# Altium schematic symbol library Control_Board_Model.SCHLIB: 226 symbols (part 5 of 7)
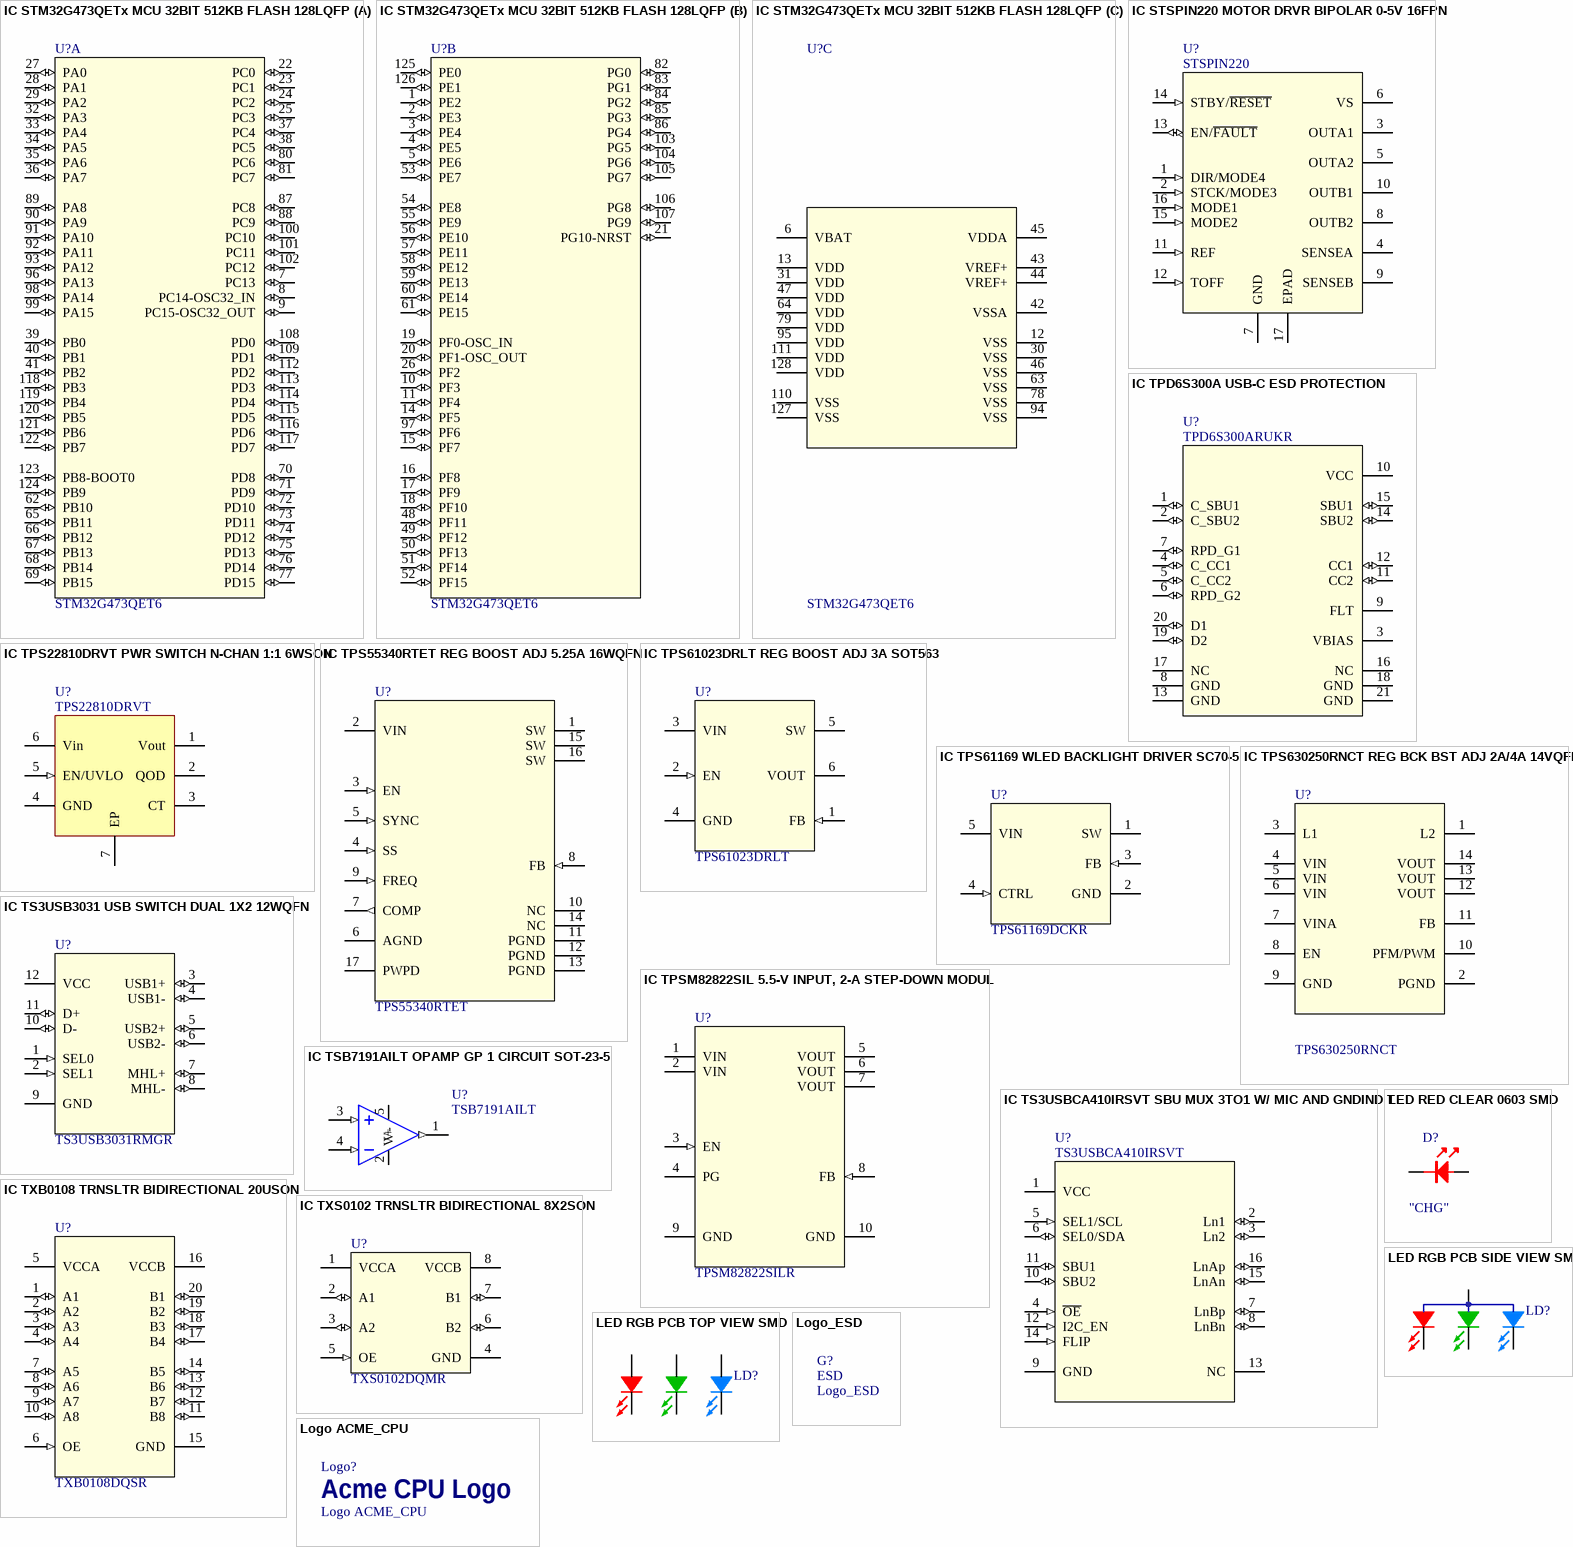
[diagram p11: symbols IC STM32G473QETx MCU 32BIT 512KB FLASH 128LQFP to Logo_ESD]

## IC TXB0108 TRNSLTR BIDIRECTIONAL 20USON
designator U?, comment TXB0108DQSR
Voltage Level Translator Bidirectional 1 Circuit 8 Channel 100Mbps 20-USON (4x2); Manufacturer: Texas Instruments; Propagation Delay: 4ns; Min Supply Voltage: 1.2V; Max Supply Voltage: 5.5V; Number of Channels: 8; High Level Output Current: -20uA; Low Level Output Current: 20uA; Turn-On Delay Time: 35.6ns; Quiescent Current: 3.5uA; Supplier 1: Digi-Key; Manufacturer Part Number: TXB0108DQSR; Stock 1: 18752; Pricing 1: 1=1.29, 10=1.151, 25=1.092, 100=0.897, 250=0.8385, 500=0.741, 1000=0.585 (USD); Mount: Surface Mount; Number of Pins: 20; Min Operating Temperature: -40°C; Max Operating Temperature: 85°C; Data Rate: 100Mbps; Packaging: Tape and Reel; Package Quantity: 1; Logic Function: Translator; Number of Bits: 8; Number of Inputs: 8; Radiation Hardening: No; Lead Free: Lead Free; REACH SVHC: No SVHC; ComponentLink1URL: http://www.ti.com/general/docs/lit/getliterature.tsp?genericPartNumber=TXB0108&amp;&amp;fileType=pdf&src-supplier=Element14; ComponentLink1Description: http://www.ti.com/general/docs/lit/getliterature.tsp?genericPartNumber=TXB0108&amp;&amp;fileType=pdf&src-supplier=Element14; ComponentLink2URL: http://www.ti.com/general/docs/suppproductinfo.tsp?distId=10&gotoUrl=http%3A%2F%2Fwww.ti.com%2Flit%2Fgpn%2Ftxb0108&src-supplier=Digi-Key; ComponentLink2Description: http://www.ti.com/general/docs/suppproductinfo.tsp?distId=10&gotoUrl=http%3A%2F%2Fwww.ti.com%2Flit%2Fgpn%2Ftxb0108&src-supplier=Digi-Key; ComponentLink3URL: http://www.ti.com/lit/ds/symlink/txb0108.pdf?src-supplier=Avnet+Europe; ComponentLink3Description: http://www.ti.com/lit/ds/symlink/txb0108.pdf?src-supplier=Avnet+Europe; ComponentLink4URL: http://www.ti.com/general/docs/lit/getliterature.tsp?genericPartNumber=TXB0108&&fileType=pdf&src-supplier=Avnet; ComponentLink4Description: http://www.ti.com/general/docs/lit/getliterature.tsp?genericPartNumber=TXB0108&&fileType=pdf&src-supplier=Avnet; Supplier Part Number 1: 296-27217-1-ND
footprint DQS20_TEX
pins: 1 A1 (io), 2 A2 (io), 3 A3 (io), 4 A4 (io), 5 VCCA (power), 6 OE (in), 7 A5 (io), 8 A6 (io), 9 A7 (io), 10 A8 (io), 11 B8 (io), 12 B7 (io), 13 B6 (io), 14 B5 (io), 15 GND (power), 16 VCCB (power), 17 B4 (io), 18 B3 (io), 19 B2 (io), 20 B1 (io)

## IC TXS0102 TRNSLTR BIDIRECTIONAL 8X2SON
designator U?, comment TXS0102DQMR
2-Bit Bidirectional Voltage-Level Translator for Open-Drain Application; Manufacturer: Texas Instruments; Max Supply Voltage: 5.5V; Min Supply Voltage: 1.65V; Propagation Delay: 260ns; Data Rate: 24Mbps; Number of Channels: 2; Turn-On Delay Time: 4.6ns; Low Level Output Current: 1mA; High Level Output Current: -20uA; Quiescent Current: 14.4uA; Supplier 1: Digi-Key; Manufacturer Part Number: TXS0102DQMR; Stock 1: 53273; Pricing 1: 1=0.69, 10=0.611, 25=0.5736, 100=0.4681, 250=0.4348, 500=0.37, 1000=0.296 (USD); Mount: Surface Mount; Number of Pins: 8; Contact Plating: Gold; Min Operating Temperature: -40°C; Max Operating Temperature: 85°C; Packaging: Tape and Reel; Package Quantity: 1; Logic Function: Translator; Number of Bits: 2; Number of Inputs: 2; Output Type: Voltage; Length: 1.85mm; Height: 0.35mm; Width: 1.25mm; Radiation Hardening: No; REACH SVHC: No SVHC; Lead Free: Lead Free; ComponentLink1URL: https://www.verical.com/server-webapp/html/getDatasheet?partID=544149&src-supplier=Verical; ComponentLink1Description: https://www.verical.com/server-webapp/html/getDatasheet?partID=544149&src-supplier=Verical; ComponentLink2URL: http://www.ti.com/general/docs/suppproductinfo.tsp?distId=10&gotoUrl=http%3A%2F%2Fwww.ti.com%2Flit%2Fgpn%2Ftxs0102&src-supplier=Digi-Key; ComponentLink2Description: http://www.ti.com/general/docs/suppproductinfo.tsp?distId=10&gotoUrl=http%3A%2F%2Fwww.ti.com%2Flit%2Fgpn%2Ftxs0102&src-supplier=Digi-Key; Supplier Part Number 1: 296-28435-1-ND
footprint DQM8
pins: 1 VCCA (power), 2 A1 (io), 3 A2 (io), 4 GND (power), 5 OE (in), 6 B2 (io), 7 B1 (io), 8 VCCB (power)

## LED RED CLEAR 0603 SMD
designator D?, comment "CHG"
Red 631nm LED Indication - Discrete 2V 0603 (1608 Metric); Manufacturer: Vishay Lite-On; Manufacturer Part Number: LTST-C191KRKT; Lens Style: Clear,Diffused,Colorless,Rectangular; Lens Transparency: Clear; Luminous Intensity: 54mcd; Test Current: 20mA; Viewing Angle: 130°; Lens Color: Colorless; Forward Current: 30mA; Number of Elements: 1; Power Dissipation: 75mW; Wavelength: 639nm; Reverse Voltage: 5V; Supplier 1: Digi-Key; Stock 1: 230321; Pricing 1: 1=0.26, 10=0.192, 100=0.0909, 500=0.0606, 1000=0.0475, 2500=0.0465 (USD); Mount: Surface Mount; Case/Package: 0603; Color: Red; Case Code (Imperial): 0603; Case Code (Metric): 1608; Packaging: Tape and Reel; Forward Voltage: 2V; Dominant Wavelength: 631nm; Length: 1.6mm; Height: 0.55mm; Width: 0.8mm; ComponentLink1URL: http://optoelectronics.liteon.com/upload/download/DS22-2000-223/LTST-C191KRKT.PDF?src-supplier=Digi-Key; ComponentLink1Description: http://optoelectronics.liteon.com/upload/download/DS22-2000-223/LTST-C191KRKT.PDF?src-supplier=Digi-Key; ComponentLink2URL: http://www1.futureelectronics.com/doc/LITE-ON/LTST-C191KRKT.pdf?src-supplier=Future+Electronics; ComponentLink2Description: http://www1.futureelectronics.com/doc/LITE-ON/LTST-C191KRKT.pdf?src-supplier=Future+Electronics; ComponentLink3URL: https://www.verical.com/server-webapp/html/getDatasheet?partID=141922&src-supplier=Verical; ComponentLink3Description: https://www.verical.com/server-webapp/html/getDatasheet?partID=141922&src-supplier=Verical; ComponentLink4URL: http://www.mouser.com/ds/2/239/LTST-C191KRKT-1140668.pdf?src-supplier=Mouser; ComponentLink4Description: http://www.mouser.com/ds/2/239/LTST-C191KRKT-1140668.pdf?src-supplier=Mouser; Supplier Part Number 1: 160-1447-1-ND; Number of Pins: 2; Min Operating Temperature: -55°C; Max Operating Temperature: 85°C; Package Quantity: 1; Illumination Color: Red; Number of LEDs: 1; Depth: 0.8mm; Radiation Hardening: No; Lead Free: Lead Free; Power Rating: 75mW; Voltage: 2V
footprint LED_0603 (LED Indication - Discrete 0603)
pins: 1 K, 2 A

## LED RGB PCB SIDE VIEW SMD
designator LD?, comment EASV2713RGBA1  (value not drawn)
Red, Green, Blue (RGB) 619nm Red, 532nm Green, 473nm Blue LED Indication - Discrete 1.85V Red, 2.9V Green, 2.9V Blue 4-SMD, No Lead; Manufacturer: Everlight Electronics Co Ltd; Color: Blue,Green,Red; Lens Style: Rectangle with Flat Top; Element Configuration: Common Anode; Lens Transparency: Diffused; Forward Voltage: 3.3V; Test Current: 5mA; Viewing Angle: 130°; Supplier 1: Digi-Key; Manufacturer Part Number: EASV2713RGBA1; Stock 1: 7810; Pricing 1: 1=0.51, 50=0.415, 100=0.298, 500=0.272 (USD); Mount: Surface Mount; Packaging: Tape and Reel; Height: 0.5mm; ComponentLink1URL: https://www.digikey.com/en/products/detail/everlight-electronics-co-ltd/EASV2713RGBA1/11200807; ComponentLink1Description: https://www.digikey.com/en/products/detail/everlight-electronics-co-ltd/EASV2713RGBA1/11200807; Supplier Part Number 1: 1080-EASV2713RGBA1TR-ND
footprint LED_EASV2713RGBA1
pins: 1 A, 2 GK, 3 RK, 4 BK

## LED RGB PCB TOP VIEW SMD
designator LD?, comment 19-337C/RSBHGHC-A88/4T  (value not drawn)
Red, Green, Blue (RGB) 625nm Red, 530nm Green, 470nm Blue LED Indication - Discrete 2.05V Red, 2.9V Green, 2.9V Blue 0606 (1616 Metric); Manufacturer: Everlight Electronics Co Ltd; Color: Blue,Green,Red; Lens Style: Rectangle with Flat Top; Element Configuration: Independent; Lens Transparency: Clear; Forward Voltage: 3.3V; Test Current: 20mA; Viewing Angle: 120°; Supplier 1: Digi-Key; Manufacturer Part Number: 19-337C/RSBHGHC-A88/4T; Stock 1: 7810; Pricing 1: 1=0.51, 50=0.415, 100=0.298, 500=0.272 (USD); Mount: Surface Mount; Packaging: Tape and Reel; Height: 0.5mm; ComponentLink1URL: https://www.digikey.com/en/products/detail/everlight-electronics-co-ltd/19-337C-RSBHGHC-A88-4T/10059590?s=N4IgTCBcDaIIwE4C0BmFB2AwgegEoGUAhACQHFjMkBBADhuwBYAVEAXQF8g; ComponentLink1Description: https://www.digikey.com/en/products/detail/everlight-electronics-co-ltd/19-337C-RSBHGHC-A88-4T/10059590?s=N4IgTCBcDaIIwE4C0BmFB2AwgegEoGUAhACQHFjMkBBADhuwBYAVEAXQF8g; Supplier Part Number 1: 1080-1631-2-ND
footprint LED_19-337C/RSBHGHC-A88/4T
pins: 1 GK, 2 GA, 3 RK, 4 RA, 5 BK, 6 BA

## Logo ACME_CPU
designator Logo?  (no BOM)
ClassName: PCB_FEATURE
footprint LOGO_ACME_CPU (Footprint not found)
text: Acme CPU Logo

## Logo_ESD
designator G?  (no BOM)
footprint Logo_ESD (Silk only)
text: ESD

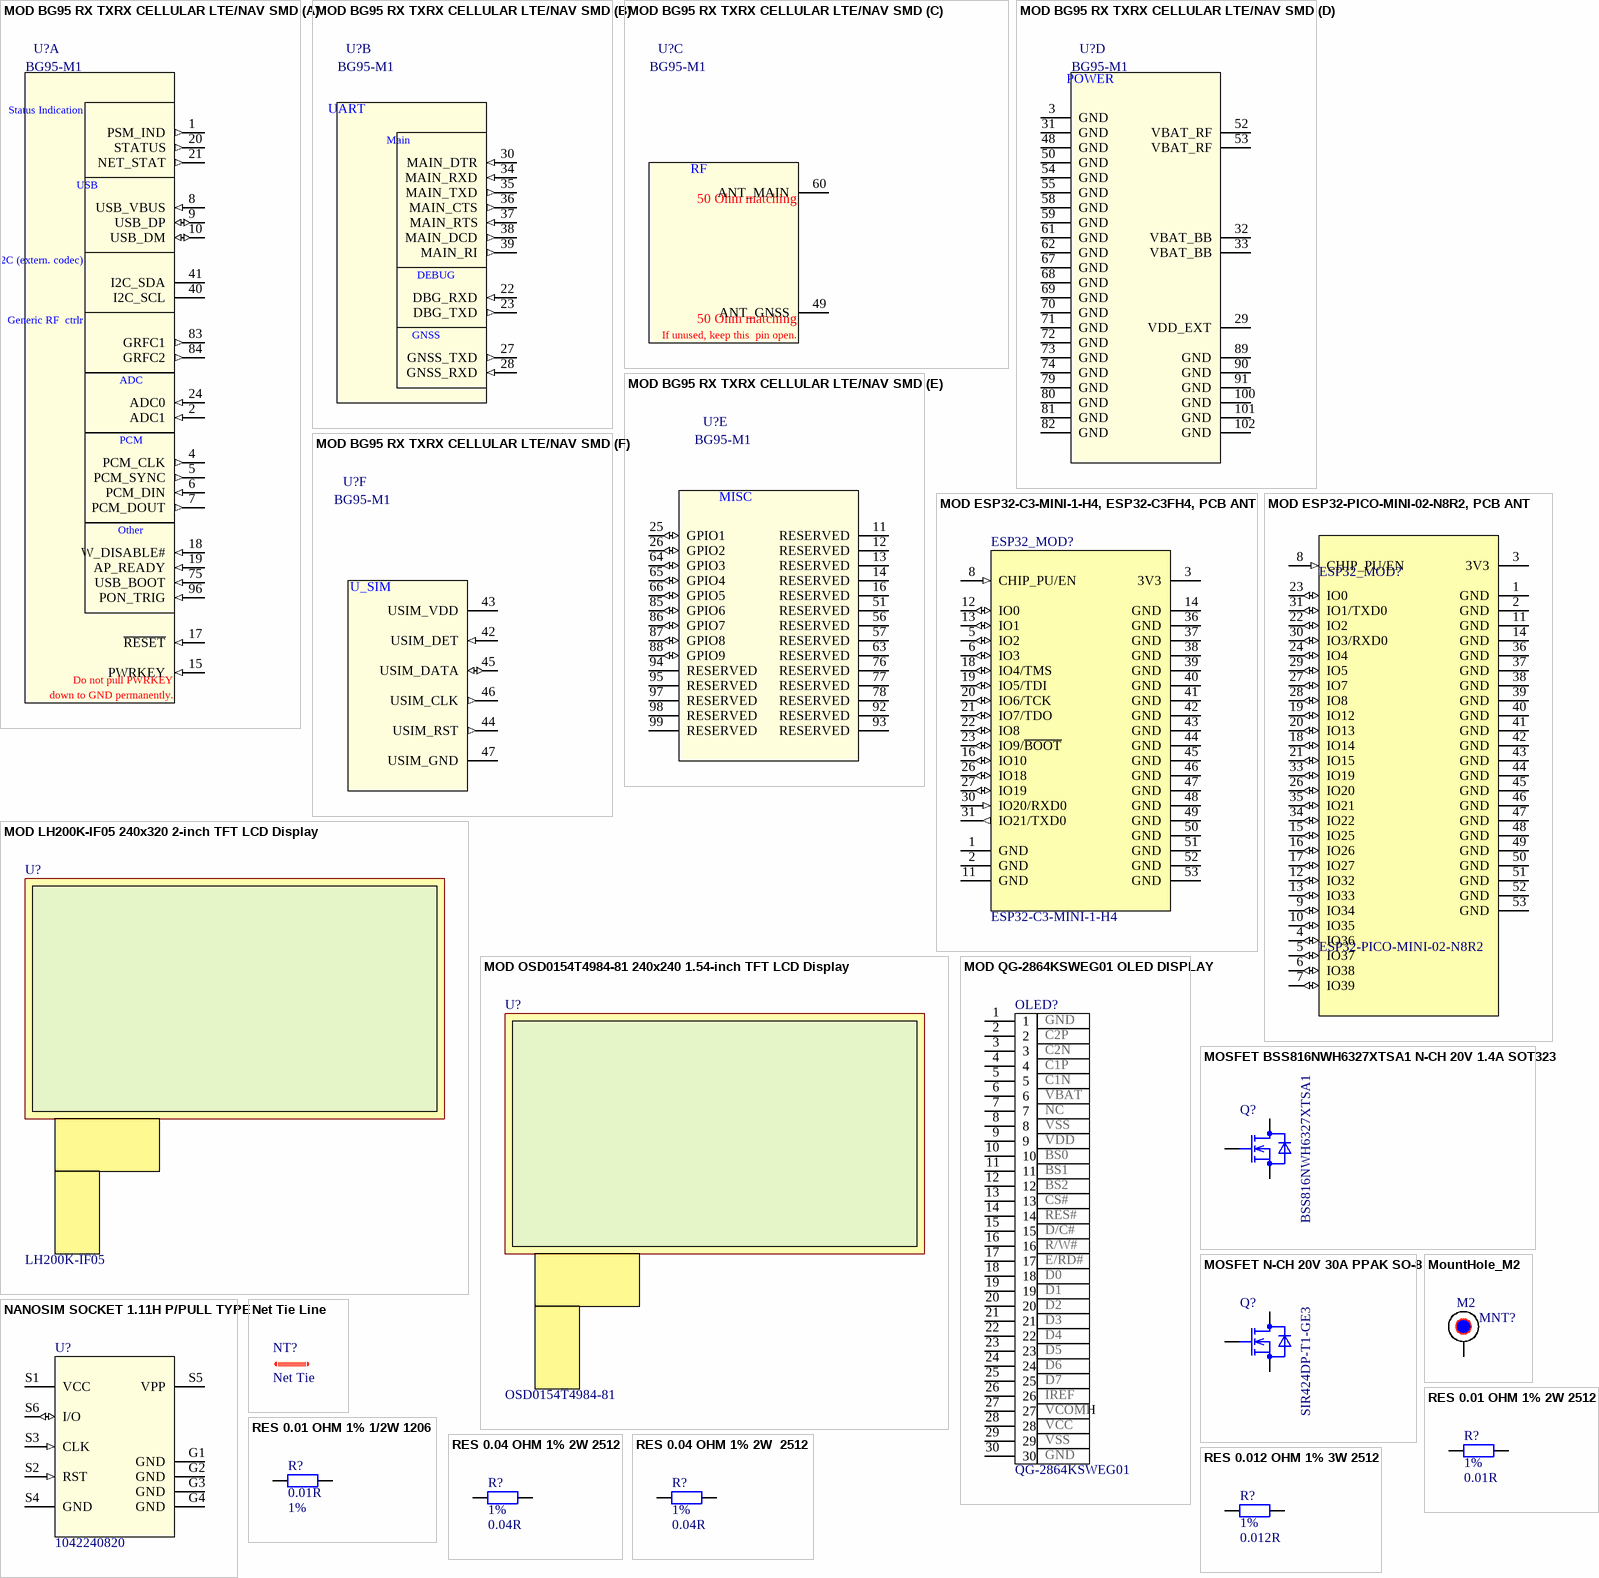
[diagram p5: symbols MOD BG95 RX TXRX CELLULAR LTE/NAV SMD to RES 0.012 OHM 1% 3W 2512]

## MOD BG95 RX TXRX CELLULAR LTE/NAV SMD
designator U?, comment BG95-M1
LTE Cat M1, LTE Cat NB2 and EGPRS Transceiver Module Antenna Not Included Surface Mount; Manufacturer: QUECTEL; Part Description: IC MODULE BG95 102-LGA 19.9x23.6mm H2.2mm RO; Geometry.Height: 2.2mm; Value: BG95; Manufacturer Part Number: BG95-M1; PCB DECAL: BG95; Mount: Surface Mount
footprint BG95
part A pins: 1 PSM_IND (out), 2 ADC1 (in), 4 PCM_CLK (out), 5 PCM_SYNC (out), 6 PCM_DIN (in), 7 PCM_DOUT (out), 8 USB_VBUS (in), 9 USB_DP (io), 10 USB_DM (io), 15 PWRKEY (in), 17 ~{RESET} (in), 18 W_DISABLE# (in), 19 AP_READY (in), 20 STATUS (out), 21 NET_STAT (out), 24 ADC0 (in), 40 I2C_SCL, 41 I2C_SDA, 75 USB_BOOT (in), 83 GRFC1 (out), 84 GRFC2 (out), 96 PON_TRIG (in)
part B pins: 22 DBG_RXD (in), 23 DBG_TXD (out), 27 GNSS_TXD (out), 28 GNSS_RXD (in), 30 MAIN_DTR (in), 34 MAIN_RXD (in), 35 MAIN_TXD (out), 36 MAIN_CTS (out), 37 MAIN_RTS (in), 38 MAIN_DCD (out), 39 MAIN_RI (out)
part C pins: 49 ANT_GNSS, 60 ANT_MAIN
part D pins: 3 GND (power), 29 VDD_EXT (power) "If unused, keep this  pin open", 31 GND (power), 32 VBAT_BB (power), 33 VBAT_BB (power), 48 GND (power), 50 GND (power), 52 VBAT_RF (power), 53 VBAT_RF (power), 54 GND (power), 55 GND (power), 58 GND (power), 59 GND (power), 61 GND (power), 62 GND (power), 67 GND (power), 68 GND (power), 69 GND (power), 70 GND (power), 71 GND (power), 72 GND (power), 73 GND (power), 74 GND (power), 79 GND (power), 80 GND (power), 81 GND (power), 82 GND (power), 89 GND (power), 90 GND (power), 91 GND (power), 100 GND (power), 101 GND (power), 102 GND (power)
part E pins: 11 RESERVED, 12 RESERVED, 13 RESERVED, 14 RESERVED, 16 RESERVED, 25 GPIO1 (io), 26 GPIO2 (io), 51 RESERVED, 56 RESERVED, 57 RESERVED, 63 RESERVED, 64 GPIO3 (io), 65 GPIO4 (io), 66 GPIO5 (io), 76 RESERVED, 77 RESERVED, 78 RESERVED, 85 GPIO6 (io), 86 GPIO7 (io), 87 GPIO8 (io), 88 GPIO9 (io), 92 RESERVED, 93 RESERVED, 94 RESERVED, 95 RESERVED, 97 RESERVED, 98 RESERVED, 99 RESERVED
part F pins: 42 USIM_DET (in), 43 USIM_VDD (power), 44 USIM_RST (out), 45 USIM_DATA (io), 46 USIM_CLK (out), 47 USIM_GND (power)
part A text: Status Indication; USB; I2C (extern. codec); Generic RF  ctrlr; ADC; PCM; Other; Do not pull PWRKEY; down to GND permanently.
part B text: UART; Main; DEBUG; GNSS
part C text: RF; 50 Ohm matching; If unused, keep this  pin open.
part D text: POWER
part E text: MISC
part F text: U_SIM

## MOD ESP32-C3-MINI-1-H4, ESP32-C3FH4, PCB ANT
designator ESP32_MOD?, comment ESP32-C3-MINI-1-H4
Bluetooth, WiFi 802.11b/g/n, Bluetooth v5.0 Transceiver Module 2.412GHz ~ 2.484GHz PCB Trace Surface Mount; Manufacturer: Espressif Systems; Supplier 1: Mouser; Manufacturer Part Number: ESP32-C3-MINI-1-H4; Stock 1: 0; Pricing 1: 1=1.9, 10=1.9, 50=1.9, 100=1.9, 1000=1.9, 10000=1.9 (USD); Supplier Part Number 1: 356-ESP32-C3-MINI1H4
footprint MODULE_ESP32-C3-MINI-1
pins: 1 GND (power), 2 GND (power), 3 3V3 (power), 4 NC hidden, 5 IO2 (io), 6 IO3 (io), 7 NC hidden, 8 CHIP_PU/EN (in), 9 NC hidden, 10 NC hidden, 11 GND (power), 12 IO0 (io), 13 IO1 (io), 14 GND (power), 15 NC hidden, 16 IO10 (io), 17 NC hidden, 18 IO4/TMS (io), 19 IO5/TDI (io), 20 IO6/TCK (io), 21 IO7/TDO (io), 22 IO8 (io), 23 IO9/~{BOOT} (io), 24 NC hidden, 25 NC hidden, 26 IO18 (io), 27 IO19 (io), 28 NC hidden, 29 NC hidden, 30 IO20/RXD0 (in), 31 IO21/TXD0 (out), 32 NC hidden, 33 NC hidden, 34 NC hidden, 35 NC hidden, 36 GND (power), 37 GND (power), 38 GND (power), 39 GND (power), 40 GND (power), 41 GND (power), 42 GND (power), 43 GND (power), 44 GND (power), 45 GND (power), 46 GND (power), 47 GND (power), 48 GND (power), 49 GND (power), 50 GND (power), 51 GND (power), 52 GND (power), 53 GND (power)

## MOD ESP32-PICO-MINI-02-N8R2, PCB ANT
designator ESP32_MOD?, comment ESP32-PICO-MINI-02-N8R2
Bluetooth, WiFi 802.11b/g/n, Bluetooth v4.2 +EDR, Class 1, 2 and 3 Transceiver Module 2.412GHz ~ 2.484GHz PCB Trace Chassis Mount; Manufacturer: Espressif Systems; Supplier 1: Mouser; Manufacturer Part Number: ESP32-PICO-MINI-02-N8R2; Stock 1: 0; Supplier Part Number 1: 1965-ESP32-PICO-MINI-02-N8R2CT-ND
footprint MODULE_ESP32-C3-MINI-1
pins: 1 GND (power), 2 GND (power), 3 3V3 (power), 4 NC hidden, 4 IO36 (io), 5 IO37 (io), 6 IO38 (io), 7 NC hidden, 7 IO39 (io), 8 CHIP_PU/EN (in), 9 NC hidden, 9 IO34 (io), 10 NC hidden, 10 IO35 (io), 11 GND (power), 12 IO32 (io), 13 IO33 (io), 14 GND (power), 15 NC hidden, 15 IO25 (io), 16 IO26 (io), 17 NC hidden, 17 IO27 (io), 18 IO14 (io), 19 IO12 (io), 20 IO13 (io), 21 IO15 (io), 22 IO2 (io), 23 IO0 (io), 24 NC hidden, 24 IO4 (io), 25 NC hidden, 26 IO20 (io), 27 IO7 (io), 28 NC hidden, 28 IO8 (io), 29 NC hidden, 29 IO5 (io), 30 IO3/RXD0 (io), 31 IO1/TXD0 (io), 32 NC hidden, 33 NC hidden, 33 IO19 (io), 34 NC hidden, 34 IO22 (io), 35 NC hidden, 35 IO21 (io), 36 GND (power), 37 GND (power), 38 GND (power), 39 GND (power), 40 GND (power), 41 GND (power), 42 GND (power), 43 GND (power), 44 GND (power), 45 GND (power), 46 GND (power), 47 GND (power), 48 GND (power), 49 GND (power), 50 GND (power), 51 GND (power), 52 GND (power), 53 GND (power)

## MOD LH200K-IF05 240x320 2-inch TFT LCD Display
designator U?, comment LH200K-IF05  (mechanical)
2” TFT LCD Display.; Manufacturer: Shenzhen Limito Technology Inc.; Mount: Not Mounted on PCB; Manufacturer Part Number: LH200K-IF05

## MOD OSD0154T4984-81 240x240 1.54-inch TFT LCD Display
designator U?, comment OSD0154T4984-81  (mechanical)
2” TFT LCD Display.; Manufacturer: OSD DISPLAYS; Mount: Not Mounted on PCB; Manufacturer Part Number: OSD0154T4984-81

## MOD QG-2864KSWEG01 OLED DISPLAY
designator OLED?, comment QG-2864KSWEG01  pin_1: GND  pin_2: C2P  pin_3: C2N  pin_4: C1P  pin_5: C1N  pin_6: VBAT  pin_7: NC  pin_8: VSS  pin_9: VDD  pin_10: BS0  pin_11: BS1  pin_12: BS2  pin_13: CS#  pin_14: RES#  pin_15: D/C#  pin_16: R/W#  pin_17: E/RD#  pin_18: D0  pin_19: D1  pin_20: D2  pin_21: D3  pin_22: D4  pin_23: D5  pin_24: D6  pin_25: D7  pin_26: IREF  pin_27: VCOMH  pin_28: VCC
OLED Display Module FPC #LT1306P22 TOP 30P 0.7MM; Manufacturer: Limito Technology Inc.; Number of Columns: 128; Number of Circuits: 30; Manufacturer Part Number: QG-2864KSWEG01; Mount: FPC Soldered on PCB; Min Operating Temperature: -40°C; Max Operating Temperature: 70°C; Number of Rows: 64; Number of Contacts: 30; Pitch: 0.7mm; pin_29: VSS; pin_30: GND
footprint QG-2864KSWEG01_Flipped (Folding Type OLED Display Module)
footprint QG-2864KSWEG01_FRONT (Folding Type OLED Display Module)
pins: 1, 2, 3, 4, 5, 6, 7, 8, 9, 10, 11, 12, 13, 14, 15, 16, 17, 18, 19, 20, 21, 22, 23, 24, 25, 26, 27, 28, 29, 30

## MOSFET BSS816NWH6327XTSA1 N-CH 20V 1.4A SOT323
designator Q?, comment BSS816NWH6327XTSA1
N-Channel 20V 1.4A (Ta) 500mW (Ta) Surface Mount PG-SOT323-3; Manufacturer: Infineon; Rds On Max: 160mR; Rise Time: 9ns; Input Capacitance: 180pF; Turn-On Delay Time: 5.3ns; Turn-Off Delay Time: 11ns; Fall Time: 2.2ns; Threshold Voltage: 550mV; Gate to Source Voltage (Vgs): 8V; Number of Channels: 1; Supplier 1: Digi-Key; Manufacturer Part Number: BSS816NWH6327XTSA1; Stock 1: 12407; Pricing 1: 1=0.37, 10=0.306, 25=0.2564, 100=0.1254, 250=0.1234, 500=0.1046, 1000=0.0727 (USD); Mount: Surface Mount; Case/Package: SOT-323; Number of Pins: 3; Weight: 0.004395oz; Contact Plating: Tin; Min Operating Temperature: -55°C; Max Operating Temperature: 150°C; Packaging: Tape and Reel; Drain to Source Voltage (Vdss): 20V; Max Dual Supply Voltage: 20V; Continuous Drain Current (ID): 1.4A; Max Power Dissipation: 500mW; Drain to Source Breakdown Voltage: 20V; Drain to Source Resistance: 160mR; Package Quantity: 3000; Halogen Free: Halogen Free; REACH SVHC: No SVHC; Lead Free: Lead Free; ComponentLink1URL: http://www.infineon.com/dgdl/BSS816NW_Rev2.3_.pdf?folderId=db3a3043156fd573011622e10b5c1f67&fileId=db3a304335113a6301351e704a2e1332&src-supplier=Avnet; ComponentLink1Description: http://www.infineon.com/dgdl/BSS816NW_Rev2.3_.pdf?folderId=db3a3043156fd573011622e10b5c1f67&fileId=db3a304335113a6301351e704a2e1332&src-supplier=Avnet; ComponentLink2URL: http://www.farnell.com/datasheets/2117725.pdf?src-supplier=Farnell; ComponentLink2Description: http://www.farnell.com/datasheets/2117725.pdf?src-supplier=Farnell; ComponentLink3URL: https://www.infineon.com/dgdl/Infineon-BSS816NW-DS-v02_03-en.pdf?fileId=db3a304335113a6301351e704a2e1332&src-supplier=Digi-Key; ComponentLink3Description: https://www.infineon.com/dgdl/Infineon-BSS816NW-DS-v02_03-en.pdf?fileId=db3a304335113a6301351e704a2e1332&src-supplier=Digi-Key; ComponentLink4URL: http://components.arrow.com/part/dataview/53682469S9650N2051?src-supplier=Arrow; ComponentLink4Description: http://components.arrow.com/part/dataview/53682469S9650N2051?src-supplier=Arrow; ComponentLink5URL: http://www.farnell.com/datasheets/2117725.pdf?src-supplier=Element14; ComponentLink5Description: http://www.farnell.com/datasheets/2117725.pdf?src-supplier=Element14; ComponentLink6URL: http://www.mouser.com/ds/2/196/Infineon-BSS816NW-DS-v02_03-en-522793.pdf?src-supplier=Mouser; ComponentLink6Description: http://www.mouser.com/ds/2/196/Infineon-BSS816NW-DS-v02_03-en-522793.pdf?src-supplier=Mouser; Supplier Part Number 1: BSS816NWH6327XTSA1CT-ND
footprint SOT-323
pins: 1 G, 2 S, 3 D

## MOSFET N-CH 20V 30A PPAK SO-8
designator Q?, comment SIR424DP-T1-GE3
N-Channel 20 V 30A (Tc) 4.8W (Ta), 41.7W (Tc) Surface Mount PowerPAK® SO-8; Manufacturer: Vishay Siliconix; Drain to Source Voltage (Vdss): 20V; Rds On Max: 5.5mR; Rise Time: 10ns; Input Capacitance: 1250pF; Max Power Dissipation: 4.8mW; Turn-On Delay Time: 18ns; Turn-Off Delay Time: 23ns; Fall Time: 7ns; Gate to Source Voltage (Vgs): 8V; Number of Channels: 1; Supplier 1: Digi-Key; Manufacturer Part Number: SIR424DP-T1-GE3; Stock 1: 12407; Pricing 1: 1=0.37, 10=0.306, 25=0.2564, 100=0.1254, 250=0.1234, 500=0.1046, 1000=0.0727 (USD); Mount: Surface Mount; Case/Package: PowerPAK® SO-8; Number of Pins: 3; Weight: 0.004395oz; Contact Plating: Tin; Min Operating Temperature: -55°C; Max Operating Temperature: 150°C; Packaging: Tape and Reel; Max Dual Supply Voltage: 20V; Continuous Drain Current (ID): 30A; Drain to Source Breakdown Voltage: 20V; Drain to Source Resistance: 5.5mR; Package Quantity: 3000; Halogen Free: Halogen Free; REACH SVHC: No SVHC; Lead Free: Lead Free; ComponentLink1URL: http://www.infineon.com/dgdl/BSS816NW_Rev2.3_.pdf?folderId=db3a3043156fd573011622e10b5c1f67&fileId=db3a304335113a6301351e704a2e1332&src-supplier=Avnet; ComponentLink1Description: http://www.infineon.com/dgdl/BSS816NW_Rev2.3_.pdf?folderId=db3a3043156fd573011622e10b5c1f67&fileId=db3a304335113a6301351e704a2e1332&src-supplier=Avnet; Supplier Part Number 1: SIR424DP-T1-GE3TR-ND
footprint PowerPAK® SO-8
pins: 1 G, 2 S, 3 D

## MountHole_M2
designator MNT?, comment MountHole M2. Nothing to buy or mount  (value not drawn)  (no BOM)
PCB Mount Hole. There is nothing to buy or mount.
footprint MountHole_M2 (Footprint not found)
pins: 1
text: M2

## NANOSIM SOCKET 1.11H P/PULL TYPE
designator U?, comment 1042240820
6 Position Card Connector NANO SIM Surface Mount, Right Angle Gold; Manufacturer: Molex; Number of Positions: 6; Pitch: 2.54mm; Supplier 1: Digi-Key; Manufacturer Part Number: 1042240820; Stock 1: 10989; Pricing 1: 1=1.31, 10=1.152, 25=1.0844, 50=1.039, 100=0.9939, 250=0.9036, 500=0.8132, 1000=0.7228 (USD); Mount: Surface Mount; Contact Plating: Gold; Number of Rows: 2; Orientation: Right Angle; Connector Type: Connector; Packaging: Tape and Reel; ComponentLink1URL: https://www.molex.com/pdm_docs/sd/1042240820_sd.pdf?src-supplier=Digi-Key; ComponentLink1Description: https://www.molex.com/pdm_docs/sd/1042240820_sd.pdf?src-supplier=Digi-Key; ComponentLink2URL: http://www.molex.com/pdm_docs/sd/1042240820_sd.pdf?src-supplier=Avnet; ComponentLink2Description: http://www.molex.com/pdm_docs/sd/1042240820_sd.pdf?src-supplier=Avnet; Supplier Part Number 1: WM23749CT-ND
footprint 1042240820_MOL
pins: G1 GND (power), G2 GND (power), G3 GND (power), G4 GND (power), S1 VCC (power), S2 RST (in), S3 CLK (in), S4 GND (power), S5 VPP (power), S6 I/O (io)

## Net Tie Line
designator NT?, comment Net Tie  (net tie, no BOM)
ClassName: Net Tie
footprint Net Tie 1x3mm
footprint Net Tie 6x30mil
footprint Net Tie 8x30mil
pins: 1, 2

## RES 0.01 OHM 1% 1/2W 1206
designator R?  Resistance: 0.01R  Tolerance: 1%  (hidden comment: RES 0.01 OHM 1% 1/2W 1206)
10 mOhms ±1% 0.5W, 1/2W Chip Resistor 1206 (3216 Metric) Automotive AEC-Q200, Current Sense, Moisture Resistant Metal Foil; Manufacturer: Yageo; Manufacturer Part Number: PE1206FRF7W0R01L; Voltage Rating: 200V; Power Rating: 250mW; Temperature Coefficient: 100ppm/°C; Supplier 1: Digi-Key; Stock 1: 98107; Pricing 1: 1=0.1, 10=0.061, 100=0.0249, 1000=0.0112, 2500=0.0097 (USD); Case/Package: 1206; Number of Pins: 2; Weight: 0.000571oz; Case Code (Imperial): 1206; Case Code (Metric): 3216; Contact Plating: Tin,Matte; Min Operating Temperature: -55°C; Max Operating Temperature: 155°C; Packaging: Tape and Reel; Voltage Rating (DC): 200V; Composition: Thick Film; Termination: SMD/SMT; Military Standard: Not; Length: 3.2mm; Height: 0.55mm; Width: 1.6mm; Depth: 1.6mm; Radiation Hardening: No; Lead Free: Lead Free; REACH SVHC: Unknown; ComponentLink1URL: https://www.digikey.com/en/products/detail/yageo/PE1206FRF7W0R01L/5914361; ComponentLink1Description: https://www.digikey.com/en/products/detail/yageo/PE1206FRF7W0R01L/5914361; Supplier Part Number 1: YAG6013TR-ND; Mount: Surface Mount
footprint R1206 (Footprint not found)
pins: 1, 2
1 alternate drawing of the same symbol

## RES 0.01 OHM 1% 2W 2512
designator R?  Tolerance: 1%  Resistance: 0.01R  (hidden comment: RES 0.01 OHM 1% 2W 2512)
10 mOhms ±1% 2W Chip Resistor 2512 (6432 Metric) Automotive AEC-Q200, Current Sense, Moisture Resistant Metal Element; Manufacturer: YAGEO; Manufacturer Part Number: PA2512FKF7W0R01E; Voltage Rating: 200V; Temperature Coefficient: 50ppm/°C; Supplier 1: Digi-Key; Stock 1: 5005874; Pricing 1: 1=0.1, 10=0.014, 100=0.0058, 1000=0.0026, 2500=0.0023, 5000=0.0019 (USD); Case/Package: 2512; Number of Pins: 2; Weight: 2.3E-05oz; Case Code (Imperial): 2512; Case Code (Metric): 6432; Min Operating Temperature: -55°C; Max Operating Temperature: 155°C; Power Rating: 2W; Packaging: Tape and Reel; Package Quantity: 1; Termination: SMD/SMT; Resistor Type: Thick Film; Number of Terminations: 2; Features: Moisture Resistant; Voltage Rating (DC): 200V; REACH SVHC: No SVHC; Military Standard: Not; Lead Free: Lead Free; ComponentLink1URL: https://www.digikey.com/en/products/detail/yageo/PA2512FKF7W0R01E/9696337; ComponentLink1Description: https://www.digikey.com/en/products/detail/yageo/PA2512FKF7W0R01E/9696337; Supplier Part Number 1: YAG6099TR-ND; Mount: Surface Mount
footprint R2512 (RES 2512)
pins: 1, 2

## RES 0.04 OHM 1% 2W 2512
designator R?  Tolerance: 1%  Resistance: 0.04R  (hidden comment: RES 0.04 OHM 1% 2W 2512)
40 mOhms ±1% 2W Chip Resistor 2512 (6432 Metric) Current Sense Thick Film; Manufacturer: Stackpole Electronics Inc; Manufacturer Part Number: CSRN2512FK40L0; Voltage Rating: 200V; Temperature Coefficient: 200ppm/°C; Supplier 1: Digi-Key; Stock 1: 5005874; Pricing 1: 1=0.1, 10=0.014, 100=0.0058, 1000=0.0026, 2500=0.0023, 5000=0.0019 (USD); Case/Package: 2512; Number of Pins: 2; Weight: 2.3E-05oz; Case Code (Imperial): 2512; Case Code (Metric): 6432; Min Operating Temperature: -55°C; Max Operating Temperature: 155°C; Power Rating: 2W; Packaging: Tape and Reel; Package Quantity: 1; Termination: SMD/SMT; Resistor Type: Thick Film; Number of Terminations: 2; Features: Moisture Resistant; Voltage Rating (DC): 200V; REACH SVHC: No SVHC; Military Standard: Not; Lead Free: Lead Free; ComponentLink1URL: https://www.digikey.com/en/products/detail/stackpole-electronics-inc/CSRN2512FK40L0/1788108?s=N4IgTCBcDaIMYGcBOA7MBWAjGAZgawBYAGAGyJAF0BfIA; ComponentLink1Description: https://www.digikey.com/en/products/detail/stackpole-electronics-inc/CSRN2512FK40L0/1788108?s=N4IgTCBcDaIMYGcBOA7MBWAjGAZgawBYAGAGyJAF0BfIA; Supplier Part Number 1: CSRN2512FK40L0CT-ND; Mount: Surface Mount
footprint R2512 (RES 2512)
pins: 1, 2

## RES 0.04 OHM 1% 2W  2512
designator R?  Tolerance: 1%  Resistance: 0.04R  (hidden comment: RES 0.04 OHM 1% 2W  2512)
40 mOhms ±1% 2W Chip Resistor 2512 (6432 Metric) Current Sense, Non-Inductive Metal Element; Manufacturer: Stackpole Electronics Inc; Manufacturer Part Number: CSR2512A0R04F; Voltage Rating: 200V; Temperature Coefficient: 50ppm/°C; Supplier 1: Digi-Key; Stock 1: 5005874; Pricing 1: 1=0.1, 10=0.014, 100=0.0058, 1000=0.0026, 2500=0.0023, 5000=0.0019 (USD); Case/Package: 2512; Number of Pins: 2; Weight: 2.3E-05oz; Case Code (Imperial): 2512; Case Code (Metric): 6432; Min Operating Temperature: -55°C; Max Operating Temperature: 155°C; Power Rating: 2W; Packaging: Tape and Reel; Package Quantity: 1; Termination: SMD/SMT; Resistor Type: Thick Film; Number of Terminations: 2; Features: Moisture Resistant; Voltage Rating (DC): 200V; REACH SVHC: No SVHC; Military Standard: Not; Lead Free: Lead Free; ComponentLink1URL: https://www.digikey.com/en/products/detail/riedon/CSR2512A0R04F/5723630?s=N4IgTCBcDaIMIGUBKYCsBGMBBADEnALAGIgC6AvkA; ComponentLink1Description: https://www.digikey.com/en/products/detail/riedon/CSR2512A0R04F/5723630?s=N4IgTCBcDaIMIGUBKYCsBGMBBADEnALAGIgC6AvkA; Supplier Part Number 1: 696-1668-2-ND; Mount: Surface Mount
footprint R2512 (RES 2512)
pins: 1, 2

## RES 0.012 OHM 1% 3W 2512
designator R?  Tolerance: 1%  Resistance: 0.012R  (hidden comment: RES 0.012 OHM 1% 3W 2512)
12 mOhms ±1% 3W Chip Resistor 2512 (6432 Metric) Current Sense Metal Element; Manufacturer: Stackpole Electronics Inc; Manufacturer Part Number: CSM2512FT12L0; Voltage Rating: 200V; Temperature Coefficient: 50ppm/°C; Supplier 1: Digi-Key; Stock 1: 5005874; Pricing 1: 1=0.1, 10=0.014, 100=0.0058, 1000=0.0026, 2500=0.0023, 5000=0.0019 (USD); Case/Package: 2512; Number of Pins: 2; Weight: 2.3E-05oz; Case Code (Imperial): 2512; Case Code (Metric): 6432; Min Operating Temperature: -55°C; Max Operating Temperature: 155°C; Power Rating: 3W; Packaging: Tape and Reel; Package Quantity: 1; Termination: SMD/SMT; Resistor Type: Thick Film; Number of Terminations: 2; Features: Moisture Resistant; Voltage Rating (DC): 200V; REACH SVHC: No SVHC; Military Standard: Not; Lead Free: Lead Free; ComponentLink1URL: https://www.digikey.com/en/products/detail/stackpole-electronics-inc/CSM2512FT12L0/6270235; ComponentLink1Description: https://www.digikey.com/en/products/detail/stackpole-electronics-inc/CSM2512FT12L0/6270235; Supplier Part Number 1: CSM2512FT12L0-ND; Mount: Surface Mount
footprint R2512 (RES 2512)
pins: 1, 2

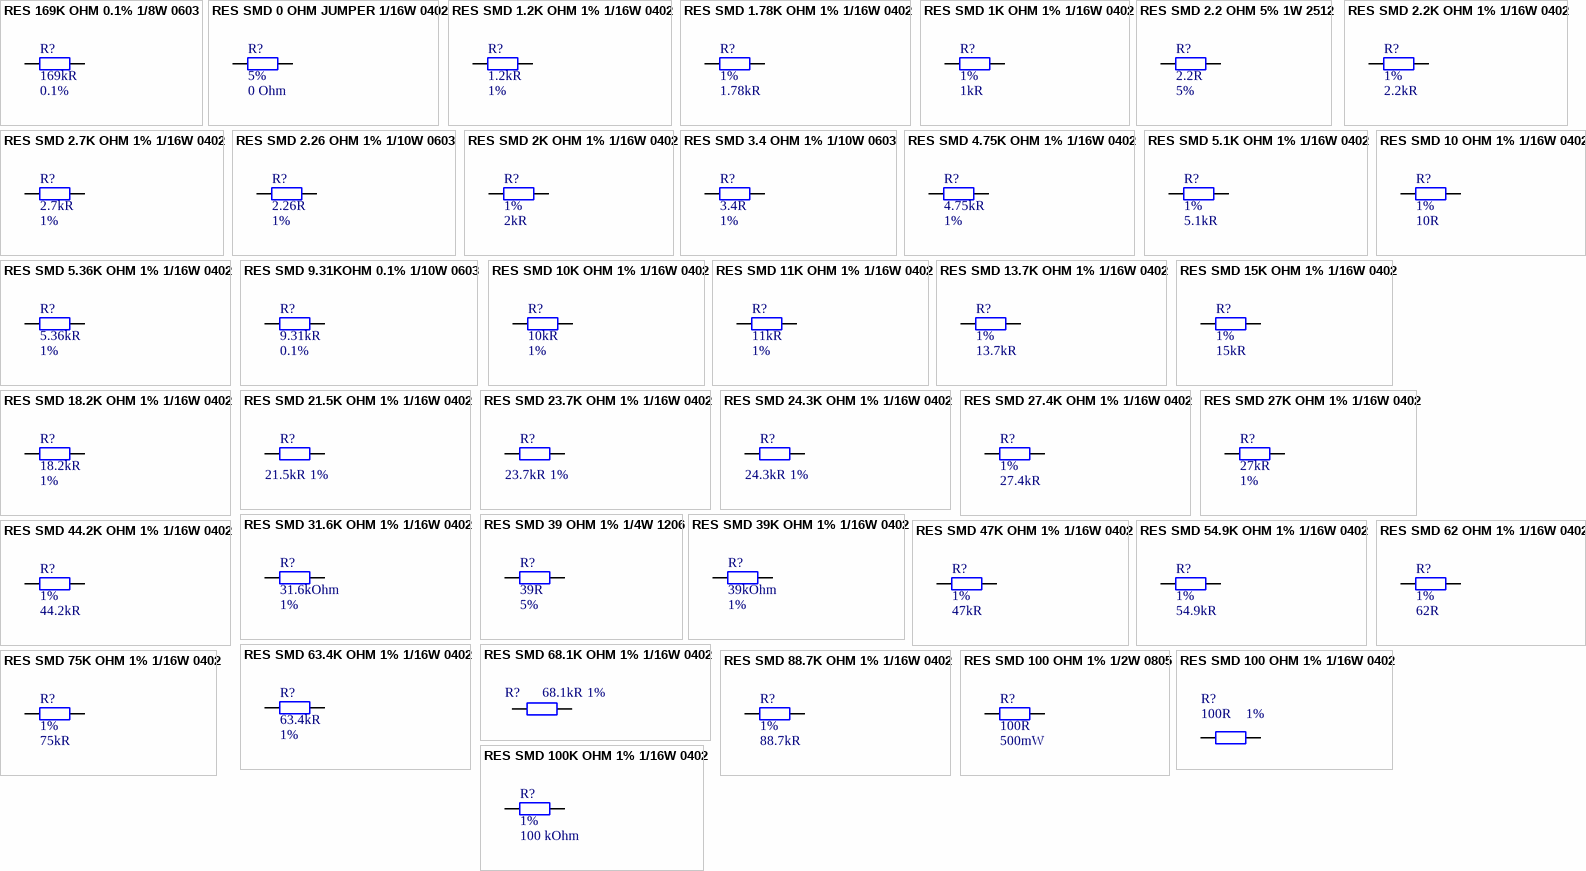
[diagram p6: symbols RES 169K OHM 0.1% 1/8W 0603 to RES SMD 100K OHM 1% 1/16W 0402]

## RES 169K OHM 0.1% 1/8W 0603
designator R?  Resistance: 169kR  Tolerance: 0.1%  (hidden comment: RES 169K OHM 0.1% 1/8W 0603)
169 kOhms ±0.1% 0.125W, 1/8W Chip Resistor 0603 (1608 Metric) Anti-Sulfur, Automotive AEC-Q200, Moisture Resistant Thin Film; Manufacturer Part Number: TNPW0603169KBEEA; Manufacturer: Vishay Dale; Temperature Coefficient: 25ppm/°C; Voltage Rating: 75V; Power Rating: 125mW; Supplier 1: Digi-Key; Stock 1: 18141; Pricing 1: 1=0.1, 10=0.04, 100=0.0164, 1000=0.0074, 2500=0.0064 (USD); Case Code (Imperial): 0603; Case Code (Metric): 1608; Min Operating Temperature: -55°C; Max Operating Temperature: 155°C; Composition: Thick Film; Packaging: Tape and Reel; Termination: SMD/SMT; Military Standard: Not; Number of Terminations: 2; Length: 1.55mm; Height: 0.02inch; Width: 0.85mm; Depth: 0.85mm; Lead Free: Lead Free; ComponentLink1URL: https://www.digikey.com/en/products/detail/vishay-dale/TNPW0603169KBEEA/1607019?s=N4IgTCBcDaICoDkAKB1ADANjQZgIwYE4BpAIQFEyBBEAXQF8g; ComponentLink1Description: https://www.digikey.com/en/products/detail/vishay-dale/TNPW0603169KBEEA/1607019?s=N4IgTCBcDaICoDkAKB1ADANjQZgIwYE4BpAIQFEyBBEAXQF8g; Supplier Part Number 1: 541-4530-1-ND; Case/Package: 0603; Weight: 7.1E-05oz; Contact Plating: Tin; Package Quantity: 5000; Max Power Dissipation: 125mW; Features: Automotive AEC-Q200; Radiation Hardening: No; Mount: Surface Mount
footprint R0603
pins: 1, 2
1 alternate drawing of the same symbol

## RES SMD 0 OHM JUMPER 1/16W 0402
designator R?  Tolerance: 5%  Resistance: 0 Ohm  (hidden comment: RES SMD 0 OHM JUMPER 1/16W 0402)
0 Ohms Jumper 0.063W, 1/16W Chip Resistor 0402 (1005 Metric) Moisture Resistant Thick Film; Manufacturer: Yageo; Manufacturer Part Number: RC0402JR-070RL; Power Rating: 62.5mW; Voltage Rating: 50V; Max Power Dissipation: 63mW; Temperature Coefficient: 200ppm/°C; Supplier 1: Digi-Key; Stock 1: 46057148; Pricing 1: 1=0.1, 10=0.013, 25=0.0092, 50=0.0072, 100=0.0053, 250=0.004, 500=0.0032, 1000=0.0024, 5000=0.0017 (USD); Contact Plating: Tin,Matte; Case Code (Metric): 1005; Case Code (Imperial): 0402; Min Operating Temperature: -55°C; Max Operating Temperature: 155°C; Packaging: Tape and Reel; Composition: Thick Film; Package Quantity: 1; Number of Terminations: 2; Termination: SMD/SMT; Military Standard: Not; Features: Moisture Resistant; Length: 1mm; Height: 0.016inch; Width: 0.02inch; Depth: 0.5mm; Radiation Hardening: No; REACH SVHC: Unknown; Lead Free: Lead Free; ComponentLink1URL: http://www.yageo.com/documents/recent/PYu-RC_Group_51_RoHS_L_10.pdf?src-supplier=Digi-Key; ComponentLink1Description: http://www.yageo.com/documents/recent/PYu-RC_Group_51_RoHS_L_10.pdf?src-supplier=Digi-Key; ComponentLink2URL: http://www.yageo.com/documents/recent/PYu-RC0402_51_RoHS_L_6.pdf?src-supplier=Avnet+Europe; ComponentLink2Description: http://www.yageo.com/documents/recent/PYu-RC0402_51_RoHS_L_6.pdf?src-supplier=Avnet+Europe; ComponentLink3URL: http://www.farnell.com/datasheets/1018594.pdf?src-supplier=Element14; ComponentLink3Description: http://www.farnell.com/datasheets/1018594.pdf?src-supplier=Element14; ComponentLink4URL: https://www.verical.com/server-webapp/html/getDatasheet?partID=326379&src-supplier=Verical; ComponentLink4Description: https://www.verical.com/server-webapp/html/getDatasheet?partID=326379&src-supplier=Verical; ComponentLink5URL: http://www.farnell.com/datasheets/2167052.pdf?src-supplier=Element14; ComponentLink5Description: http://www.farnell.com/datasheets/2167052.pdf?src-supplier=Element14; Supplier Part Number 1: 311-0.0JRCT-ND; Case/Package: 0402; Mount: Surface Mount
footprint 0402R
footprint R0402
pins: 1, 2

## RES SMD 1.2K OHM 1% 1/16W 0402
designator R?  Resistance: 1.2kR  Tolerance: 1%  (hidden comment: RES SMD 1.2K OHM 1% 1/16W 0402)
1.2 kOhms ±1% 0.063W, 1/16W Chip Resistor 0402 (1005 Metric) Moisture Resistant Thick Film; Manufacturer: Yageo; Manufacturer Part Number: RC0402FR-071K2L; Power Rating: 63mW; Temperature Coefficient: 100ppm/°C; Voltage Rating: 50V; Supplier 1: Digi-Key; Stock 1: 894472; Pricing 1: 1=0.1, 10=0.015, 100=0.0062, 1000=0.0028, 2500=0.0024, 5000=0.002 (USD); Case/Package: 0402; Case Code (Imperial): 0402; Case Code (Metric): 1005; Min Operating Temperature: -55°C; Max Operating Temperature: 155°C; Packaging: Tape and Reel; Termination: SMD/SMT; Composition: Thick Film; Number of Terminations: 2; Military Standard: Not; Max Power Dissipation: 63mW; Features: Moisture Resistant; Length: 1mm; Height: 0.016inch; Width: 0.02inch; Depth: 0.5mm; Lead Free: Lead Free; ComponentLink1URL: http://www.farnell.com/datasheets/2167052.pdf?src-supplier=Element14; ComponentLink1Description: http://www.farnell.com/datasheets/2167052.pdf?src-supplier=Element14; ComponentLink2URL: https://www.verical.com/server-webapp/html/getDatasheet?partID=323716&src-supplier=Verical; ComponentLink2Description: https://www.verical.com/server-webapp/html/getDatasheet?partID=323716&src-supplier=Verical; Supplier Part Number 1: 311-1.20KLRCT-ND; ComponentLink3URL: http://documents.rs-components.com/techlib://itc_doclist_GB.htm?stockno=6186138&src-supplier=RSComponents; ComponentLink3Description: http://documents.rs-components.com/techlib://itc_doclist_GB.htm?stockno=6186138&src-supplier=RSComponents; Package Quantity: 1; REACH SVHC: Unknown; ComponentLink4URL: http://www.yageo.com/documents/recent/PYu-RC_Group_51_RoHS_L_10.pdf?src-supplier=Digi-Key; ComponentLink4Description: http://www.yageo.com/documents/recent/PYu-RC_Group_51_RoHS_L_10.pdf?src-supplier=Digi-Key; ComponentLink5URL: http://www.yageo.com/documents/recent/PYu-RC_Group_51_RoHS_L_9.pdf?src-supplier=Digi-Key; ComponentLink5Description: http://www.yageo.com/documents/recent/PYu-RC_Group_51_RoHS_L_9.pdf?src-supplier=Digi-Key; ComponentLink6URL: http://www.yageo.com/documents/recent/PYu-RC0402_51_RoHS_L_6_r.pdf?src-supplier=Future+Electronics; ComponentLink6Description: http://www.yageo.com/documents/recent/PYu-RC0402_51_RoHS_L_6_r.pdf?src-supplier=Future+Electronics; Mount: Surface Mount
footprint R_0402
footprint R0402
pins: 1, 2

## RES SMD 1.78K OHM 1% 1/16W 0402
designator R?  Tolerance: 1%  Resistance: 1.78kR  (hidden comment: RES SMD 1.78K OHM 1% 1/16W 0402)
1.78 kOhms ±1% 0.063W, 1/16W Chip Resistor 0402 (1005 Metric) Automotive AEC-Q200, Moisture Resistant Thick Film; Manufacturer: Yageo; Manufacturer Part Number: AC0402FR-071K78L; Power Rating: 62.5mW; Voltage Rating: 50V; Temperature Coefficient: 200ppm/°C; Max Power Dissipation: 63mW; Supplier 1: Digi-Key; Stock 1: 5005874; Pricing 1: 1=0.1, 10=0.014, 100=0.0058, 1000=0.0026, 2500=0.0023, 5000=0.0019 (USD); Case/Package: 0402; Number of Pins: 2; Weight: 2.3E-05oz; Case Code (Imperial): 0402; Case Code (Metric): 1005; Min Operating Temperature: -55°C; Max Operating Temperature: 155°C; Packaging: Tape and Reel; Package Quantity: 1; Termination: SMD/SMT; Resistor Type: Thick Film; Number of Terminations: 2; Features: Moisture Resistant; Voltage Rating (DC): 50V; Length: 1mm; Height: 0.016inch; Width: 0.5mm; Depth: 0.5mm; REACH SVHC: No SVHC; Military Standard: Not; Lead Free: Lead Free; ComponentLink1URL: https://www.digikey.com/en/products/detail/yageo/AC0402FR-071K78L/5895149?s=N4IgTCBcDaIIIGEAMAWJYBiAlAtEg7AIwDW%2BAHADIgC6AvkA; ComponentLink1Description: https://www.digikey.com/en/products/detail/yageo/AC0402FR-0762RL/5895461?s=N4IgTCBcDaIIIGEAMAWJYBiAlAtEg7AGxhYAyIAugL5A; Supplier Part Number 1: AC0402FR-071K78L-ND; Mount: Surface Mount
footprint R_0402
footprint R0402
pins: 1, 2

## RES SMD 1K OHM 1% 1/16W 0402
designator R?, comment Tolerance: 1%  Resistance: 1kR  (hidden comment: RC0402FR-071KL)
1 kOhms ±1% 0.063W, 1/16W Chip Resistor 0402 (1005 Metric) Moisture Resistant Thick Film; Manufacturer: Yageo; Value: 22k; Temperature Coefficient: 100ppm/°C; Power Rating: 62.5mW; Voltage Rating: 50V; Supplier 1: Digi-Key; Manufacturer Part Number: RC0402FR-071KL; Stock 1: 9574509; Pricing 1: 1=0.1, 10=0.015, 100=0.0062, 1000=0.0028, 2500=0.0024, 5000=0.002 (USD); Case/Package: 0402; Case Code (Metric): 1005; Case Code (Imperial): 0402; Min Operating Temperature: -55°C; Max Operating Temperature: 155°C; Packaging: Tape and Reel; Composition: Thick Film; Length: 1mm; Height: 0.32mm; Width: 0.5mm; ComponentLink1URL: http://www.mouser.com/ds/2/447/PYu-RC0402_51_RoHS_L_6_r-8721.pdf?src-supplier=Mouser; ComponentLink1Description: http://www.mouser.com/ds/2/447/PYu-RC0402_51_RoHS_L_6_r-8721.pdf?src-supplier=Mouser; ComponentLink2URL: http://documents.rs-components.com/techlib://itc_doclist_GB.htm?stockno=6186122&src-supplier=RSComponents; ComponentLink2Description: http://documents.rs-components.com/techlib://itc_doclist_GB.htm?stockno=6186122&src-supplier=RSComponents; Supplier Part Number 1: 311-1.00KLRCT-ND; Termination: SMD/SMT; Military Standard: Not; Depth: 0.5mm; Lead Free: Lead Free; ComponentLink3URL: http://www.farnell.com/datasheets/1018594.pdf?src-supplier=Element14; ComponentLink3Description: http://www.farnell.com/datasheets/1018594.pdf?src-supplier=Element14; Voltage Rating (DC): 50V; REACH SVHC: Unknown; ComponentLink4URL: http://www.yageo.com/documents/recent/PYu-RC0402_51_RoHS_L_6_r.pdf?src-supplier=Future+Electronics; ComponentLink4Description: http://www.yageo.com/documents/recent/PYu-RC0402_51_RoHS_L_6_r.pdf?src-supplier=Future+Electronics; Number of Pins: 2; ComponentLink5URL: http://www.farnell.com/datasheets/2167052.pdf?src-supplier=Element14; ComponentLink5Description: http://www.farnell.com/datasheets/2167052.pdf?src-supplier=Element14
footprint R0402
pins: 1, 2

## RES SMD 2.2 OHM 5% 1W 2512
designator R?  Resistance: 2.2R  Tolerance: 5%  (hidden comment: RES SMD 2.2 OHM 5% 1W 2512)
2.2 Ohms ±5% 1W Chip Resistor 2512 (6432 Metric) Automotive AEC-Q200 Thick Film; Manufacturer: Vishay Dale; Manufacturer Part Number: CRCW25122R20JNEG; Temperature Coefficient: 200ppm/°C; Voltage Rating: 500V; Supplier 1: Digi-Key; Stock 1: 19521; Pricing 1: 1=0.34, 10=0.292, 100=0.114, 1000=0.0477 (USD); Case/Package: 2512; Number of Pins: 2; Case Code (Metric): 6432; Case Code (Imperial): 2512; Contact Plating: Tin; Min Operating Temperature: -55°C; Max Operating Temperature: 155°C; Package Quantity: 2000; Power Rating: 1W; Packaging: Tape and Reel; Composition: Thick Film; Number of Terminations: 2; Termination: SMD/SMT; Military Standard: Not; Max Power Dissipation: 1W; Features: Automotive AEC-Q200; Length: 6.3mm; Height: 0.6mm; Width: 3.15mm; Depth: 3.15mm; Radiation Hardening: No; REACH SVHC: Unknown; Lead Free: Lead Free; ComponentLink1URL: http://www.vishay.com/docs/20035/dcrcwe3.pdf?src-supplier=Digi-Key; ComponentLink1Description: http://www.vishay.com/docs/20035/dcrcwe3.pdf?src-supplier=Digi-Key; Supplier Part Number 1: 541-2.2XCT-ND; Weight: 0.001429oz; Number of Terminals: 2; Voltage Rating (DC): 500V; Mount: Surface Mount
footprint Resistor-2512N (RES 2512)
footprint R2512
pins: 1, 2

## RES SMD 2.2K OHM 1% 1/16W 0402
designator R?  Tolerance: 1%  Resistance: 2.2kR  (hidden comment: RES SMD 2.2K OHM 1% 1/16W 0402)
2.2 kOhms ±1% 0.063W, 1/16W Chip Resistor 0402 (1005 Metric) Automotive AEC-Q200, Moisture Resistant Thick Film; Manufacturer: Yageo; Manufacturer Part Number: AC0402FR-072K2L; Power Rating: 62.5mW; Voltage Rating: 50V; Temperature Coefficient: 200ppm/°C; Max Power Dissipation: 63mW; Supplier 1: Digi-Key; Stock 1: 5005874; Pricing 1: 1=0.1, 10=0.014, 100=0.0058, 1000=0.0026, 2500=0.0023, 5000=0.0019 (USD); Case/Package: 0402; Number of Pins: 2; Weight: 2.3E-05oz; Case Code (Imperial): 0402; Case Code (Metric): 1005; Min Operating Temperature: -55°C; Max Operating Temperature: 155°C; Packaging: Tape and Reel; Package Quantity: 1; Termination: SMD/SMT; Resistor Type: Thick Film; Number of Terminations: 2; Features: Moisture Resistant; Voltage Rating (DC): 50V; Length: 1mm; Height: 0.016inch; Width: 0.5mm; Depth: 0.5mm; REACH SVHC: No SVHC; Military Standard: Not; Lead Free: Lead Free; ComponentLink1URL: https://www.digikey.com/en/products/detail/yageo/AC0402FR-072K2L/5895245?s=N4IgTCBcDaIIIGEAMAWJYBiAlAtEg7GANJgAyIAugL5A; ComponentLink1Description: https://www.digikey.com/en/products/detail/yageo/AC0402FR-072K2L/5895245?s=N4IgTCBcDaIIIGEAMAWJYBiAlAtEg7GANJgAyIAugL5A; Supplier Part Number 1: YAG3467CT-ND; Mount: Surface Mount
footprint R_0402
footprint R0402
pins: 1, 2

## RES SMD 2.7K OHM 1% 1/16W 0402
designator R?  Resistance: 2.7kR  Tolerance: 1%  (hidden comment: RES SMD 2.7K OHM 1% 1/16W 0402)
2.7 kOhms ±1% 0.063W, 1/16W Chip Resistor 0402 (1005 Metric) Moisture Resistant Thick Film; Manufacturer: Yageo; Manufacturer Part Number: RC0402FR-072K7L; Power Rating: 63mW; Temperature Coefficient: 100ppm/°C; Voltage Rating: 50V; Supplier 1: Digi-Key; Stock 1: 261850; Pricing 1: 1=0.1, 10=0.016, 100=0.0064, 1000=0.0029, 2500=0.0025, 5000=0.0021 (USD); Case/Package: 0402; Case Code (Imperial): 0402; Case Code (Metric): 1005; Min Operating Temperature: -55°C; Max Operating Temperature: 155°C; Packaging: Tape and Reel; Package Quantity: 1; Termination: SMD/SMT; Composition: Thick Film; Number of Terminations: 2; Military Standard: Not; Max Power Dissipation: 63mW; Features: Moisture Resistant; Working Voltage: 50V; Length: 1mm; Height: 0.016inch; Width: 0.02inch; Depth: 0.5mm; REACH SVHC: Unknown; Lead Free: Lead Free; ComponentLink1URL: http://www.mouser.com/ds/2/447/PYu-RC0402_51_RoHS_L_6_r-8721.pdf?src-supplier=Mouser; ComponentLink1Description: http://www.mouser.com/ds/2/447/PYu-RC0402_51_RoHS_L_6_r-8721.pdf?src-supplier=Mouser; ComponentLink2URL: http://www.yageo.com/documents/recent/PYu-RC_Group_51_RoHS_L_9.pdf?src-supplier=Digi-Key; ComponentLink2Description: http://www.yageo.com/documents/recent/PYu-RC_Group_51_RoHS_L_9.pdf?src-supplier=Digi-Key; ComponentLink3URL: http://www.yageo.com/documents/recent/PYu-RC_Group_51_RoHS_L_10.pdf?src-supplier=Digi-Key; ComponentLink3Description: http://www.yageo.com/documents/recent/PYu-RC_Group_51_RoHS_L_10.pdf?src-supplier=Digi-Key; ComponentLink4URL: http://www.farnell.com/datasheets/2167052.pdf?src-supplier=Element14; ComponentLink4Description: http://www.farnell.com/datasheets/2167052.pdf?src-supplier=Element14; Supplier Part Number 1: 311-2.70KLRCT-ND; ClassName: STM32G473CETx; Mount: Surface Mount
footprint R_0402
footprint R0402
pins: 1, 2

## RES SMD 2.26 OHM 1% 1/10W 0603
designator R?  Resistance: 2.26R  Tolerance: 1%  (hidden comment: RES SMD 2.26 OHM 1% 1/10W 0603)
2.26 Ohms ±1% 0.1W, 1/10W Chip Resistor 0603 (1608 Metric) Automotive AEC-Q200 Thick Film; Manufacturer Part Number: CRCW06032R26FKEA; Manufacturer: Vishay Dale; Temperature Coefficient: 100ppm/°C; Voltage Rating: 75V; Power Rating: 100mW; Supplier 1: Digi-Key; Stock 1: 18141; Pricing 1: 1=0.1, 10=0.04, 100=0.0164, 1000=0.0074, 2500=0.0064 (USD); Case Code (Imperial): 0603; Case Code (Metric): 1608; Min Operating Temperature: -55°C; Max Operating Temperature: 155°C; Composition: Thick Film; Packaging: Tape and Reel; Termination: SMD/SMT; Military Standard: Not; Number of Terminations: 2; Length: 1.55mm; Height: 0.02inch; Width: 0.85mm; Depth: 0.85mm; Lead Free: Lead Free; ComponentLink1URL: http://www.vishay.com/docs/20035/dcrcwe3.pdf?src-supplier=Avnet; ComponentLink1Description: http://www.vishay.com/docs/20035/dcrcwe3.pdf?src-supplier=Avnet; Supplier Part Number 1: 541-2.26HHCT-ND; Case/Package: 0603; Weight: 7.1E-05oz; Contact Plating: Tin; Package Quantity: 5000; Max Power Dissipation: 100mW; Features: Automotive AEC-Q200; Radiation Hardening: No; Mount: Surface Mount
footprint R0603
pins: 1, 2
1 alternate drawing of the same symbol

## RES SMD 2K OHM 1% 1/16W 0402
designator R?, comment Tolerance: 1%  Resistance: 2kR  (hidden comment: RC0402FR-072KL)
2 kOhms ±1% 0.063W, 1/16W Chip Resistor 0402 (1005 Metric) Moisture Resistant Thick Film; Manufacturer: Yageo; Value: 2k; Temperature Coefficient: 100ppm/°C; Power Rating: 62.5mW; Voltage Rating: 50V; Supplier 1: Digi-Key; Manufacturer Part Number: RC0402FR-072KL; Stock 1: 9574509; Pricing 1: 1=0.1, 10=0.015, 100=0.0062, 1000=0.0028, 2500=0.0024, 5000=0.002 (USD); Case/Package: 0402; Case Code (Metric): 1005; Case Code (Imperial): 0402; Min Operating Temperature: -55°C; Max Operating Temperature: 155°C; Packaging: Tape and Reel; Composition: Thick Film; Length: 1mm; Height: 0.32mm; Width: 0.5mm; ComponentLink1URL: https://www.digikey.com/en/products/detail/yageo/RC0402FR-072KL/2827565?s=N4IgTCBcDaIEoGEAMAWJYBicC0SDsYA0gDIgC6AvkA; ComponentLink1Description: https://www.digikey.com/en/products/detail/yageo/RC0402FR-072KL/2827565?s=N4IgTCBcDaIEoGEAMAWJYBicC0SDsYA0gDIgC6AvkA; Supplier Part Number 1: 311-2KLRTR-ND; Termination: SMD/SMT; Military Standard: Not; Depth: 0.5mm; Lead Free: Lead Free; Voltage Rating (DC): 50V; REACH SVHC: Unknown; Number of Pins: 2
footprint R0402
pins: 1, 2

## RES SMD 3.4 OHM 1% 1/10W 0603
designator R?  Resistance: 3.4R  Tolerance: 1%  (hidden comment: RES SMD 3.4 OHM 1% 1/10W 0603)
3.4 Ohms ±1% 0.1W, 1/10W Chip Resistor 0603 (1608 Metric) Automotive AEC-Q200 Thick Film; Manufacturer Part Number: CRCW06033R40FKEA; Manufacturer: Vishay Dale; Temperature Coefficient: 100ppm/°C; Voltage Rating: 75V; Power Rating: 100mW; Supplier 1: Digi-Key; Stock 1: 18141; Pricing 1: 1=0.1, 10=0.04, 100=0.0164, 1000=0.0074, 2500=0.0064 (USD); Case Code (Imperial): 0603; Case Code (Metric): 1608; Min Operating Temperature: -55°C; Max Operating Temperature: 155°C; Composition: Thick Film; Packaging: Tape and Reel; Termination: SMD/SMT; Military Standard: Not; Number of Terminations: 2; Length: 1.55mm; Height: 0.02inch; Width: 0.85mm; Depth: 0.85mm; Lead Free: Lead Free; ComponentLink1URL: http://www.vishay.com/docs/20035/dcrcwe3.pdf?src-supplier=Avnet; ComponentLink1Description: http://www.vishay.com/docs/20035/dcrcwe3.pdf?src-supplier=Avnet; Supplier Part Number 1: 541-3.40HHTR-ND; Case/Package: 0603; Weight: 7.1E-05oz; Contact Plating: Tin; Package Quantity: 5000; Max Power Dissipation: 100mW; Features: Automotive AEC-Q200; Radiation Hardening: No; Mount: Surface Mount
footprint R0603
pins: 1, 2
1 alternate drawing of the same symbol

## RES SMD 4.75K OHM 1% 1/16W 0402
designator R?  Resistance: 4.75kR  Tolerance: 1%  (hidden comment: RES SMD 4.75K OHM 1% 1/16W 0402)
4.75 kOhms ±1% 0.063W, 1/16W Chip Resistor 0402 (1005 Metric) Moisture Resistant Thick Film; Manufacturer: Yageo; Manufacturer Part Number: RC0402FR-074K75P; Max Power Dissipation: 63mW; Temperature Coefficient: 150ppm/°C; Case/Package: 0402; Supplier 1: Digi-Key; Stock 1: 23485; Pricing 1: 1=0.1, 10=0.035, 100=0.014, 1000=0.0063, 2500=0.0055, 5000=0.0045 (USD); Case Code (Metric): 1005; Case Code (Imperial): 0402; Min Operating Temperature: -55°C; Max Operating Temperature: 155°C; Packaging: Tape and Reel; Composition: Thick Film; Number of Terminations: 2; Features: Moisture Resistant; Length: 0.039inch; Height: 0.016inch; Width: 0.02inch; ComponentLink1URL: http://www.yageo.com/NewPortal/yageodocoutput?fileName=/pdf/R-Chip/PYu-RC_51_RoHS_P_0.pdf&src-supplier=Digi-Key; ComponentLink1Description: http://www.yageo.com/NewPortal/yageodocoutput?fileName=/pdf/R-Chip/PYu-RC_51_RoHS_P_0.pdf&src-supplier=Digi-Key; ComponentLink2URL: http://www.yageo.com.tw/exep/pages/download/literatures/PYu-R_INT-thick_7.pdf?src-supplier=Digi-Key; ComponentLink2Description: http://www.yageo.com.tw/exep/pages/download/literatures/PYu-R_INT-thick_7.pdf?src-supplier=Digi-Key; Supplier Part Number 1: YAG1271CT-ND; ClassName: I2C_SW; Mount: Surface Mount
footprint R_0402
footprint R0402
pins: 1, 2

## RES SMD 5.1K OHM 1% 1/16W 0402
designator R?  Tolerance: 1%  Resistance: 5.1kR  (hidden comment: RES SMD 5.1K OHM 1% 1/16W 0402)
5.1 kOhms ±1% 0.063W, 1/16W Chip Resistor 0402 (1005 Metric) Moisture Resistant Thick Film; Manufacturer: Yageo; Manufacturer Part Number: RC0402FR-075K1L; Max Power Dissipation: 63mW; Temperature Coefficient: 100ppm/°C; Voltage Rating (DC): 50V; Supplier 1: Digi-Key; Stock 1: 19803; Pricing 1: 1=0.1, 10=0.016, 100=0.0064, 1000=0.0029, 2500=0.0025, 5000=0.0021 (USD); Case/Package: 0402; Case Code (Metric): 1005; Case Code (Imperial): 0402; Min Operating Temperature: -55°C; Max Operating Temperature: 155°C; Packaging: Tape and Reel; Composition: Thick Film; Number of Terminations: 2; Package Quantity: 1; Power Rating: 63mW; Military Standard: Not; Features: Moisture Resistant; Voltage Rating: 50V; Termination: SMD/SMT; Working Voltage: 50V; Length: 1mm; Height: 0.016inch; Width: 0.02inch; Depth: 0.5mm; Lead Free: Lead Free; REACH SVHC: Unknown; ComponentLink1URL: https://www.verical.com/server-webapp/html/getDatasheet?partID=323636&src-supplier=Verical; ComponentLink1Description: https://www.verical.com/server-webapp/html/getDatasheet?partID=323636&src-supplier=Verical; ComponentLink2URL: http://www.yageo.com/documents/recent/PYu-RC_Group_51_RoHS_L_10.pdf?src-supplier=Digi-Key; ComponentLink2Description: http://www.yageo.com/documents/recent/PYu-RC_Group_51_RoHS_L_10.pdf?src-supplier=Digi-Key; ComponentLink3URL: http://www.farnell.com/datasheets/2167052.pdf?src-supplier=Element14; ComponentLink3Description: http://www.farnell.com/datasheets/2167052.pdf?src-supplier=Element14; ComponentLink4URL: http://www.yageo.com/documents/recent/PYu-RC0402_51_RoHS_L_6_r.pdf?src-supplier=Future+Electronics; ComponentLink4Description: http://www.yageo.com/documents/recent/PYu-RC0402_51_RoHS_L_6_r.pdf?src-supplier=Future+Electronics; ComponentLink5URL: http://www.yageo.com/documents/recent/PYu-RC0402_51_RoHS_L_6_r.pdf?src-supplier=Mouser; ComponentLink5Description: http://www.yageo.com/documents/recent/PYu-RC0402_51_RoHS_L_6_r.pdf?src-supplier=Mouser; ComponentLink6URL: http://www.farnell.com/datasheets/1018594.pdf?src-supplier=Element14; ComponentLink6Description: http://www.farnell.com/datasheets/1018594.pdf?src-supplier=Element14; Supplier Part Number 1: 311-5.10KLRCT-ND; Mount: Surface Mount
footprint R_0402
footprint R0402
pins: 1, 2